# Altium schematic symbol library TL2230EEF100.SchLib: 1 symbol
Pins are listed as number, name and electrical type; pins without a type are passive.

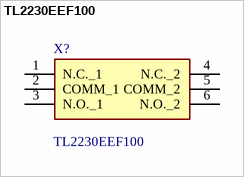
[diagram p0: symbol TL2230EEF100]

## TL2230EEF100
designator X?
Tactile Switches DPDT LATCHING 100gF; Manufacturer_Name: E-Switch; Geometry.Height: 12.5mm; Manufacturer_Part_Number: TL2230EEF100; Mouser Part Number: 612-TL2230EEF100; Mouser Price/Stock: https://www.mouser.co.uk/ProductDetail/E-Switch/TL2230EEF100?qs=YXf4ACKMM4xiI7PLB69x1w%3D%3D; Arrow Part Number: *; Arrow Price/Stock: *; Datasheet Link: https://www.mouser.com/datasheet/2/140/TL2201-346399.pdf
footprint TL2230OAF140
pins: 1 N.C._1, 2 COMM_1, 3 N.O._1, 4 N.C._2, 5 COMM_2, 6 N.O._2